# Altium footprint library WR-WTB.PcbLib: 259 footprints (part 8 of 17)
Each footprint in its own frame and in the unit in brackets; x right, y up, seen from the top. Pads: shape width x height; smd on the part's side, far side on the other; paste and mask are expansions set on the pad; w line width, h text height; cw(c..) or ccw(c..) is an arc to the next point about the centre after c.
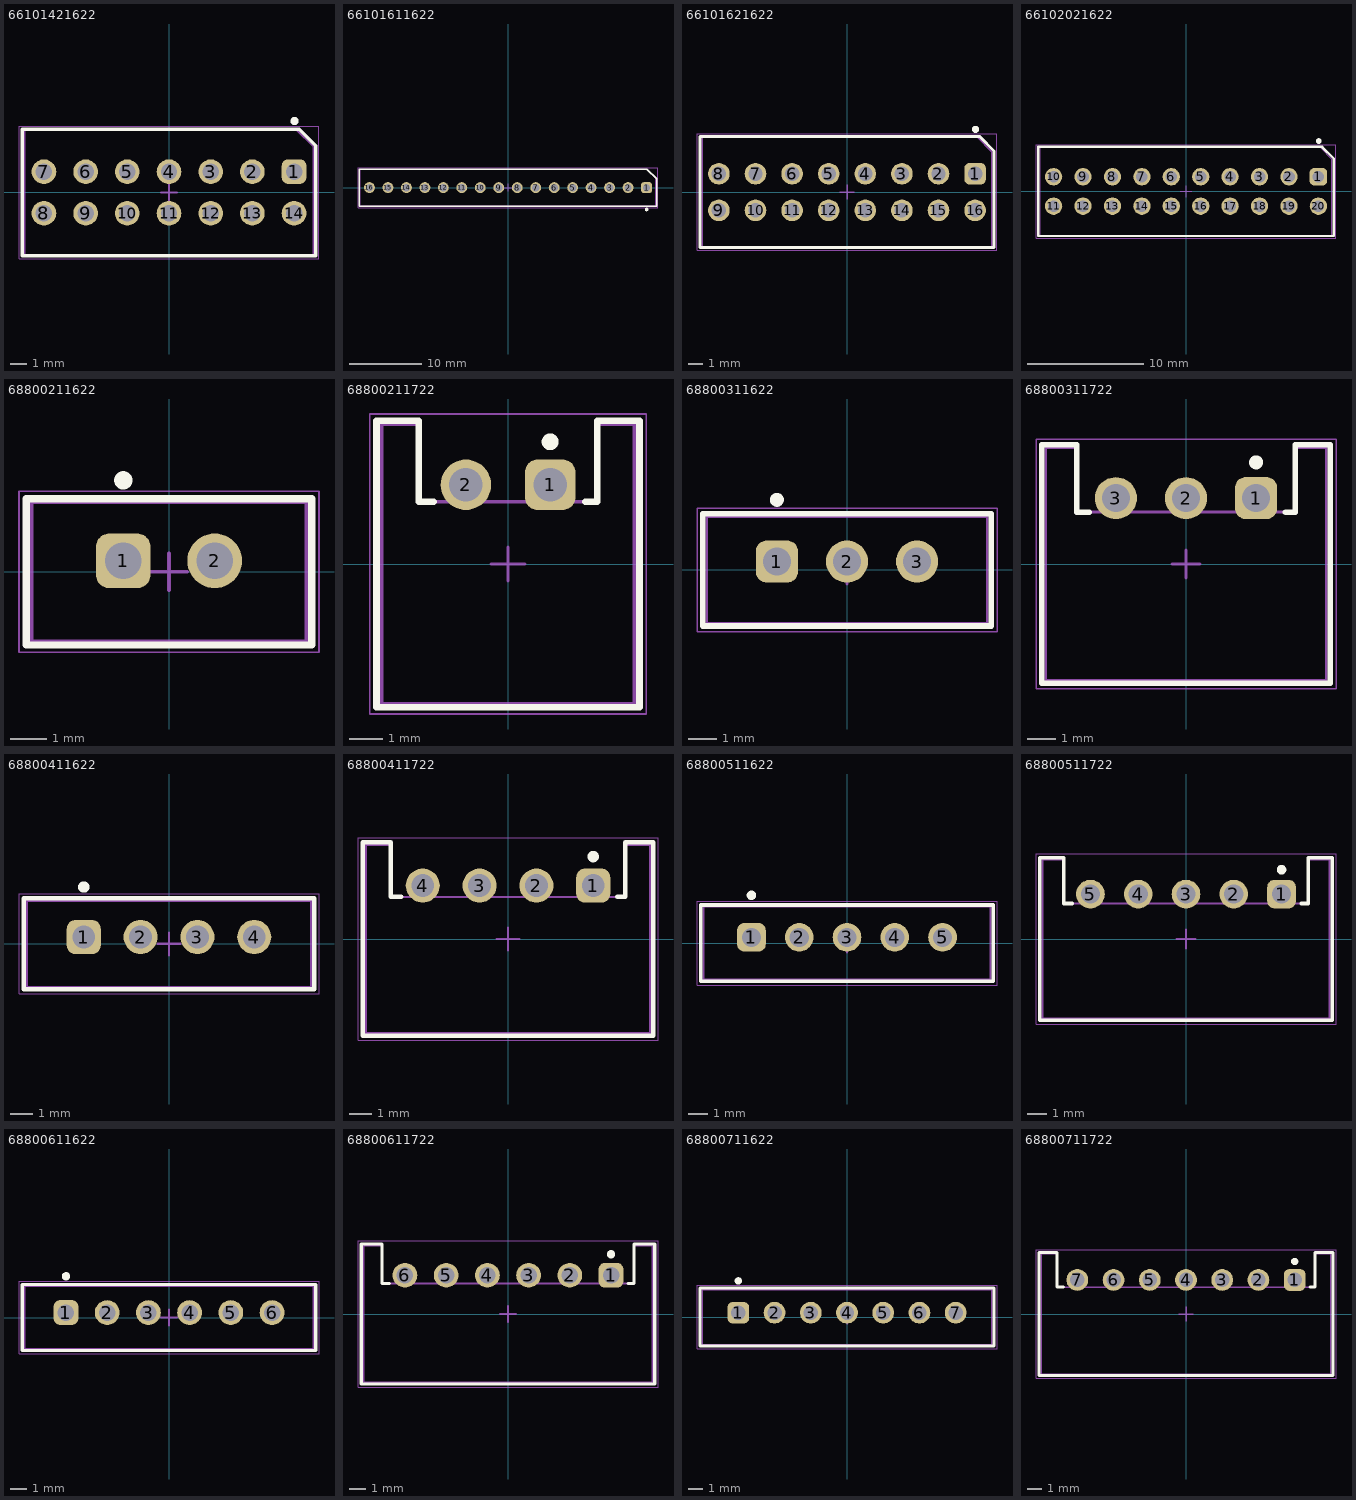
[diagram p7: the footprints below, top view; thin cyan lines are the x and y axes]

## 66101421622 [mm] "2.54mm Male Vertical Dual Row Header, 14p"
height 11.2
pads (14):
  rrect50% 1.5x1.5 hole 1: 1(7.62,1.27)
  round 1.5 hole 1: 2(5.08,1.27) 3(2.54,1.27) 4(0,1.27) 5(-2.54,1.27) 6(-5.08,1.27) 7(-7.62,1.27) 8(-7.62,-1.27) 9(-5.08,-1.27) 10(-2.54,-1.27) 11(0,-1.27) 12(2.54,-1.27) 13(5.08,-1.27) 14(7.62,-1.27)
Top Overlay:
  circle w0.25: c7.65,4.35 r0.125
  lines w0.2: 8.94,2.8 8.94,-3.85 -8.94,-3.85 -8.94,3.85 7.94,3.85 8.94,2.85
Top Assembly:
  lines w0.1: -8.79,-3.8 -8.79,3.8 7.79,3.8 8.79,2.8 8.79,-3.8 -8.79,-3.8
Top Designator:
  text ".Designator" at -3.647,-0.357 h1
Top Courtyard:
  lines w0.05: -9.14,-4.05 -9.14,4.05 9.14,4.05 9.14,-4.05 -9.14,-4.05
Top Component Center:
  lines w0.1: -0.5,0 0.5,0 ; 0,-0.5 0,0.5
3D body "66101421622.stp": height 11.22, standoff -2.88, extent -8.79,-3.8 8.79,3.8

## 66101611622 [mm] "2.54 mm Intercom Male Horizontal Shrouded Header, 16p"
height 11.3
pads (16):
  rrect50% 1.5x1.5 hole 1: 1(19.05,0)
  round 1.5 hole 1: 2(16.51,0) 3(13.97,0) 4(11.43,0) 5(8.89,0) 6(6.35,0) 7(3.81,0) 8(1.27,0) 9(-1.27,0) 10(-3.81,0) 11(-6.35,0) 12(-8.89,0) 13(-11.43,0) 14(-13.97,0) 15(-16.51,0) 16(-19.05,0)
Top Overlay:
  circle w0.25: c19.05,-3 r0.125
  lines w0.2: -20.42,-2.55 -20.42,2.55 19.07,2.55 20.42,1.2 20.42,-2.55 -20.42,-2.55
Top Assembly:
  lines w0.1: -20.32,-2.5 20.32,-2.5 20.32,1.3 19.12,2.5 -20.32,2.5 -20.32,-2.5
Top Designator:
  text ".Designator" at -3.647,-0.357 h1
Top Courtyard:
  lines w0.05: -20.62,-2.75 -20.62,2.75 20.62,2.75 20.62,-2.75 -20.62,-2.75
Top Component Center:
  lines w0.1: -0.5,0 0.5,0 ; 0,-0.5 0,0.5
3D body "66101611622.stp": height 11.32, standoff -2.98, extent -20.17,-2.5 20.17,2.5

## 66101621622 [mm] "2.54mm Male Vertical Dual Row Header, 16p"
height 11.2
pads (16):
  rrect50% 1.5x1.5 hole 1: 1(8.89,1.27)
  round 1.5 hole 1: 2(6.35,1.27) 3(3.81,1.27) 4(1.27,1.27) 5(-1.27,1.27) 6(-3.81,1.27) 7(-6.35,1.27) 8(-8.89,1.27) 9(-8.89,-1.27) 10(-6.35,-1.27) 11(-3.81,-1.27) 12(-1.27,-1.27) 13(1.27,-1.27) 14(3.81,-1.27) 15(6.35,-1.27) 16(8.89,-1.27)
Top Overlay:
  circle w0.25: c8.92,4.35 r0.125
  lines w0.2: 10.21,2.8 10.21,-3.85 -10.21,-3.85 -10.21,3.85 9.21,3.85 10.21,2.85
Top Assembly:
  lines w0.1: -10.06,-3.8 10.06,-3.8 10.06,2.8 9.06,3.8 -10.06,3.8 -10.06,-3.8
Top Designator:
  text ".Designator" at -3.647,-0.357 h1
Top Courtyard:
  lines w0.05: -10.41,-4.05 10.41,-4.05 10.41,4.05 -10.41,4.05 -10.41,-4.05
Top Component Center:
  lines w0.1: -0.5,0 0.5,0 ; 0,-0.5 0,0.5
3D body "66101621622.stp": height 11.22, standoff -2.88, extent -10.06,-3.8 10.06,3.8

## 66102021622 [mm] "2.54mm Male Vertical Dual Row Header, 20p"
height 11.2
pads (20):
  rrect50% 1.5x1.5 hole 1: 1(11.43,1.27)
  round 1.5 hole 1: 2(8.89,1.27) 3(6.35,1.27) 4(3.81,1.27) 5(1.27,1.27) 6(-1.27,1.27) 7(-3.81,1.27) 8(-6.35,1.27) 9(-8.89,1.27) 10(-11.43,1.27) 11(-11.43,-1.27) 12(-8.89,-1.27) 13(-6.35,-1.27) 14(-3.81,-1.27) 15(-1.27,-1.27) 16(1.27,-1.27) 17(3.81,-1.27) 18(6.35,-1.27) 19(8.89,-1.27) 20(11.43,-1.27)
Top Overlay:
  circle w0.25: c11.46,4.35 r0.125
  lines w0.2: 12.75,2.8 12.75,-3.85 -12.75,-3.85 -12.75,3.85 11.75,3.85 12.75,2.85
Top Assembly:
  lines w0.1: -12.6,-3.8 12.6,-3.8 12.6,2.8 11.6,3.8 -12.6,3.8 -12.6,-3.8
Top Designator:
  text ".Designator" at -3.647,-0.357 h1
Top Courtyard:
  lines w0.05: -12.95,-4.05 12.95,-4.05 12.95,4.05 -12.95,4.05 -12.95,-4.05
Top Component Center:
  lines w0.1: -0.5,0 0.5,0 ; 0,-0.5 0,0.5
3D body "66102021622.stp": height 11.22, standoff -2.88, extent -12.6,-3.8 12.6,3.8

## 68800211622 [mm] "2.50mm ¡°J¡± Type Vertical Male Shrouded Header, 2p"
height 6
pads (2):
  rrect50% 1.5x1.5 hole 1: 1(-1.25,0.3)
  round 1.5 hole 1: 2(1.25,0.3)
Top Overlay:
  circle w0.25: c-1.25,2.5 r0.125
  lines w0.2: -3.9,-2 -3.9,2 3.9,2 3.9,-2 -3.9,-2
Top Assembly:
  lines w0.1: -3.75,-1.9 3.75,-1.9 3.75,1.9 -3.75,1.9 -3.75,-1.9
Top Designator:
  text ".Designator" at -3.647,-0.357 h1
Top Courtyard:
  lines w0.05: -4.1,-2.2 -4.1,2.2 4.1,2.2 4.1,-2.2 -4.1,-2.2
Top Component Center:
  lines w0.1: -0.5,0 0.5,0 ; 0,-0.5 0,0.5
3D body "68800211622.stp": height 6.03, standoff -3.18, extent -3.75,-1.9 3.75,1.9

## 68800211722 [mm] "2.50mm ¡°J¡± Type Male Horizontal Shrouded Header, 2p"
height 4.2
pads (2):
  rrect50% 1.5x1.5 hole 1: 1(1.25,2.35)
  round 1.5 hole 1: 2(-1.25,2.35)
Top Overlay:
  circle w0.25: c1.25,3.625 r0.125
  lines w0.2: -2.2,1.85 -2.65,1.85 -2.65,4.25 -3.9,4.25 -3.9,-4.25 3.9,-4.25 3.9,4.25 2.65,4.25 2.65,1.85 2.3,1.85
Top Assembly:
  lines w0.1: -3.75,-4.15 3.75,-4.15 3.75,4.15 2.65,4.15 2.65,1.85 -2.65,1.85 -2.65,4.15 -3.75,4.15 -3.75,-4.15
Top Designator:
  text ".Designator" at -3.647,-0.357 h1
Top Courtyard:
  lines w0.05: -4.1,-4.45 -4.1,4.45 4.1,4.45 4.1,-4.45 -4.1,-4.45
Top Component Center:
  lines w0.1: -0.5,0 0.5,0 ; 0,-0.5 0,0.5
3D body "68800211722.stp": height 4.23, standoff -3.27, extent -3.75,-4.15 3.75,4.15

## 68800311622 [mm] "2.50mm ¡°J¡± Type Vertical Male Shrouded Header, 3p"
height 6
pads (3):
  rrect50% 1.5x1.5 hole 1: 1(-2.5,0.3)
  round 1.5 hole 1: 2(0,0.3) 3(2.5,0.3)
Top Overlay:
  circle w0.25: c-2.5,2.5 r0.125
  lines w0.2: -5.15,-2 5.15,-2 5.15,2 -5.15,2 -5.15,-2
Top Assembly:
  lines w0.1: -5,-1.9 -5,1.9 5,1.9 5,-1.9 -5,-1.9
Top Designator:
  text ".Designator" at -3.647,-0.357 h1
Top Courtyard:
  lines w0.05: -5.35,-2.2 5.35,-2.2 5.35,2.2 -5.35,2.2 -5.35,-2.2
Top Component Center:
  lines w0.1: -0.5,0 0.5,0 ; 0,-0.5 0,0.5
3D body "68800311622.stp": height 6.03, standoff -3.18, extent -5,-1.9 5,1.9

## 68800311722 [mm] "2.50mm ¡°J¡± Type Male Horizontal Shrouded Header, 3p"
height 4.2
pads (3):
  rrect50% 1.5x1.5 hole 1: 1(2.5,2.35)
  round 1.5 hole 1: 2(0,2.35) 3(-2.5,2.35)
Top Overlay:
  circle w0.25: c2.5,3.625 r0.125
  lines w0.2: -3.45,1.85 -3.9,1.85 -3.9,4.25 -5.15,4.25 -5.15,-4.25 5.15,-4.25 5.15,4.25 3.9,4.25 3.9,1.85 3.55,1.85
Top Assembly:
  lines w0.1: -5,-4.15 5,-4.15 5,4.15 3.9,4.15 3.9,1.85 -3.9,1.85 -3.9,4.15 -5,4.15 -5,-4.15
Top Designator:
  text ".Designator" at -3.647,-0.357 h1
Top Courtyard:
  lines w0.05: -5.35,-4.45 -5.35,4.45 5.35,4.45 5.35,-4.45 -5.35,-4.45
Top Component Center:
  lines w0.1: -0.5,0 0.5,0 ; 0,-0.5 0,0.5
3D body "68800311722.stp": height 4.23, standoff -3.27, extent -5,-4.15 5,4.15

## 68800411622 [mm] "2.50mm ¡°J¡± Type Vertical Male Shrouded Header, 4p"
height 6
pads (4):
  rrect50% 1.5x1.5 hole 1: 1(-3.75,0.3)
  round 1.5 hole 1: 2(-1.25,0.3) 3(1.25,0.3) 4(3.75,0.3)
Top Overlay:
  circle w0.25: c-3.75,2.5 r0.125
  lines w0.2: -6.4,-2 -6.4,2 6.4,2 6.4,-2 -6.4,-2
Top Assembly:
  lines w0.1: -6.25,-1.9 6.25,-1.9 6.25,1.9 -6.25,1.9 -6.25,-1.9
Top Designator:
  text ".Designator" at -3.647,-0.357 h1
Top Courtyard:
  lines w0.05: -6.6,-2.2 -6.6,2.2 6.6,2.2 6.6,-2.2 -6.6,-2.2
Top Component Center:
  lines w0.1: -0.5,0 0.5,0 ; 0,-0.5 0,0.5
3D body "68800411622.stp": height 6.03, standoff -3.18, extent -6.25,-1.9 6.25,1.9

## 68800411722 [mm] "2.50mm ¡°J¡± Type Male Horizontal Shrouded Header, 4p"
height 4.2
pads (4):
  rrect50% 1.5x1.5 hole 1: 1(3.75,2.35)
  round 1.5 hole 1: 2(1.25,2.35) 3(-1.25,2.35) 4(-3.75,2.35)
Top Overlay:
  circle w0.25: c3.75,3.625 r0.125
  lines w0.2: -4.7,1.85 -5.15,1.85 -5.15,4.25 -6.4,4.25 -6.4,-4.25 6.4,-4.25 6.4,4.25 5.15,4.25 5.15,1.85 4.8,1.85
Top Assembly:
  lines w0.1: -6.25,-4.15 6.25,-4.15 6.25,4.15 5.15,4.15 5.15,1.85 -5.15,1.85 -5.15,4.15 -6.25,4.15 -6.25,-4.15
Top Designator:
  text ".Designator" at -3.647,-0.357 h1
Top Courtyard:
  lines w0.05: -6.6,-4.45 -6.6,4.45 6.6,4.45 6.6,-4.45 -6.6,-4.45
Top Component Center:
  lines w0.1: -0.5,0 0.5,0 ; 0,-0.5 0,0.5
3D body "68800411722.stp": height 4.23, standoff -3.27, extent -6.25,-4.15 6.25,4.15

## 68800511622 [mm] "2.50mm ¡°J¡± Type Vertical Male Shrouded Header, 5p"
height 6
pads (5):
  rrect50% 1.5x1.5 hole 1: 1(-5,0.3)
  round 1.5 hole 1: 2(-2.5,0.3) 3(0,0.3) 4(2.5,0.3) 5(5,0.3)
Top Overlay:
  circle w0.25: c-5,2.5 r0.125
  lines w0.2: -7.65,-2 -7.65,2 7.65,2 7.65,-2 -7.65,-2
Top Assembly:
  lines w0.1: -7.5,-1.9 7.5,-1.9 7.5,1.9 -7.5,1.9 -7.5,-1.9
Top Designator:
  text ".Designator" at -3.647,-0.357 h1
Top Courtyard:
  lines w0.05: -7.85,-2.2 -7.85,2.2 7.85,2.2 7.85,-2.2 -7.85,-2.2
Top Component Center:
  lines w0.1: -0.5,0 0.5,0 ; 0,-0.5 0,0.5
3D body "68800511622.stp": height 6.03, standoff -3.18, extent -7.5,-1.9 7.5,1.9

## 68800511722 [mm] "2.50mm ¡°J¡± Type Male Horizontal Shrouded Header, 5p"
height 4.2
pads (5):
  rrect50% 1.5x1.5 hole 1: 1(5,2.35)
  round 1.5 hole 1: 2(2.5,2.35) 3(0,2.35) 4(-2.5,2.35) 5(-5,2.35)
Top Overlay:
  circle w0.25: c5,3.625 r0.125
  lines w0.2: -5.95,1.85 -6.4,1.85 -6.4,4.25 -7.65,4.25 -7.65,-4.25 7.65,-4.25 7.65,4.25 6.4,4.25 6.4,1.85 6.05,1.85
Top Assembly:
  lines w0.1: -7.5,-4.15 7.5,-4.15 7.5,4.15 6.4,4.15 6.4,1.85 -6.4,1.85 -6.4,4.15 -7.5,4.15 -7.5,-4.15
Top Designator:
  text ".Designator" at -3.647,-0.357 h1
Top Courtyard:
  lines w0.05: -7.85,-4.45 -7.85,4.45 7.85,4.45 7.85,-4.45 -7.85,-4.45
Top Component Center:
  lines w0.1: -0.5,0 0.5,0 ; 0,-0.5 0,0.5
3D body "68800511722.stp": height 4.23, standoff -3.27, extent -7.5,-4.15 7.5,4.15

## 68800611622 [mm] "2.50mm ¡°J¡± Type Vertical Male Shrouded Header, 6p"
height 6
pads (6):
  rrect50% 1.5x1.5 hole 1: 1(-6.25,0.3)
  round 1.5 hole 1: 2(-3.75,0.3) 3(-1.25,0.3) 4(1.25,0.3) 5(3.75,0.3) 6(6.25,0.3)
Top Overlay:
  circle w0.25: c-6.25,2.5 r0.125
  lines w0.2: -8.9,-2 8.9,-2 8.9,2 -8.9,2 -8.9,-2
Top Assembly:
  lines w0.1: -8.75,-1.9 -8.75,1.9 8.75,1.9 8.75,-1.9 -8.75,-1.9
Top Designator:
  text ".Designator" at -3.647,-0.357 h1
Top Courtyard:
  lines w0.05: -9.1,-2.2 9.1,-2.2 9.1,2.2 -9.1,2.2 -9.1,-2.2
Top Component Center:
  lines w0.1: -0.5,0 0.5,0 ; 0,-0.5 0,0.5
3D body "68800611622.stp": height 6.03, standoff -3.18, extent -8.75,-1.9 8.75,1.9

## 68800611722 [mm] "2.50mm ¡°J¡± Type Male Horizontal Shrouded Header, 6p"
height 4.2
pads (6):
  rrect50% 1.5x1.5 hole 1: 1(6.25,2.35)
  round 1.5 hole 1: 2(3.75,2.35) 3(1.25,2.35) 4(-1.25,2.35) 5(-3.75,2.35) 6(-6.25,2.35)
Top Overlay:
  circle w0.25: c6.25,3.625 r0.125
  lines w0.2: -7.2,1.85 -7.65,1.85 -7.65,4.25 -8.9,4.25 -8.9,-4.25 8.9,-4.25 8.9,4.25 7.65,4.25 7.65,1.85 7.3,1.85
Top Assembly:
  lines w0.1: -8.75,-4.15 8.75,-4.15 8.75,4.15 7.65,4.15 7.65,1.85 -7.65,1.85 -7.65,4.15 -8.75,4.15 -8.75,-4.15
Top Designator:
  text ".Designator" at -3.647,-0.357 h1
Top Courtyard:
  lines w0.05: -9.1,-4.45 -9.1,4.45 9.1,4.45 9.1,-4.45 -9.1,-4.45
Top Component Center:
  lines w0.1: -0.5,0 0.5,0 ; 0,-0.5 0,0.5
3D body "68800611722.stp": height 4.23, standoff -3.27, extent -8.75,-4.15 8.75,4.15

## 68800711622 [mm] "2.50mm ¡°J¡± Type Vertical Male Shrouded Header, 7p"
height 6
pads (7):
  rrect50% 1.5x1.5 hole 1: 1(-7.5,0.3)
  round 1.5 hole 1: 2(-5,0.3) 3(-2.5,0.3) 4(0,0.3) 5(2.5,0.3) 6(5,0.3) 7(7.5,0.3)
Top Overlay:
  circle w0.25: c-7.5,2.5 r0.125
  lines w0.2: -10.15,-2 -10.15,2 10.15,2 10.15,-2 -10.15,-2
Top Assembly:
  lines w0.1: -10,-1.9 10,-1.9 10,1.9 -10,1.9 -10,-1.9
Top Designator:
  text ".Designator" at -3.647,-0.357 h1
Top Courtyard:
  lines w0.05: -10.35,-2.2 -10.35,2.2 10.35,2.2 10.35,-2.2 -10.35,-2.2
Top Component Center:
  lines w0.1: -0.5,0 0.5,0 ; 0,-0.5 0,0.5
3D body "68800711622.stp": height 6.03, standoff -3.18, extent -10,-1.9 10,1.9

## 68800711722 [mm] "2.50mm ¡°J¡± Type Male Horizontal Shrouded Header, 7p"
height 4.2
pads (7):
  rrect50% 1.5x1.5 hole 1: 1(7.5,2.35)
  round 1.5 hole 1: 2(5,2.35) 3(2.5,2.35) 4(0,2.35) 5(-2.5,2.35) 6(-5,2.35) 7(-7.5,2.35)
Top Overlay:
  circle w0.25: c7.5,3.625 r0.125
  lines w0.2: -8.45,1.85 -8.9,1.85 -8.9,4.25 -10.15,4.25 -10.15,-4.25 10.15,-4.25 10.15,4.25 8.9,4.25 8.9,1.85 8.55,1.85
Top Assembly:
  lines w0.1: -10,-4.15 -10,4.15 -8.9,4.15 -8.9,1.85 8.9,1.85 8.9,4.15 10,4.15 10,-4.15 -10,-4.15
Top Designator:
  text ".Designator" at -3.647,-0.357 h1
Top Courtyard:
  lines w0.05: -10.35,-4.45 10.35,-4.45 10.35,4.45 -10.35,4.45 -10.35,-4.45
Top Component Center:
  lines w0.1: -0.5,0 0.5,0 ; 0,-0.5 0,0.5
3D body "68800711722.stp": height 4.23, standoff -3.27, extent -10,-4.15 10,4.15